# Altium footprint library PcbLib1.PcbLib: 20 footprints (part 1 of 2)
Each footprint in its own frame and in the unit in brackets; x right, y up, seen from the top. Pads: shape width x height; smd on the part's side, far side on the other; paste and mask are expansions set on the pad; w line width, h text height; cw(c..) or ccw(c..) is an arc to the next point about the centre after c.
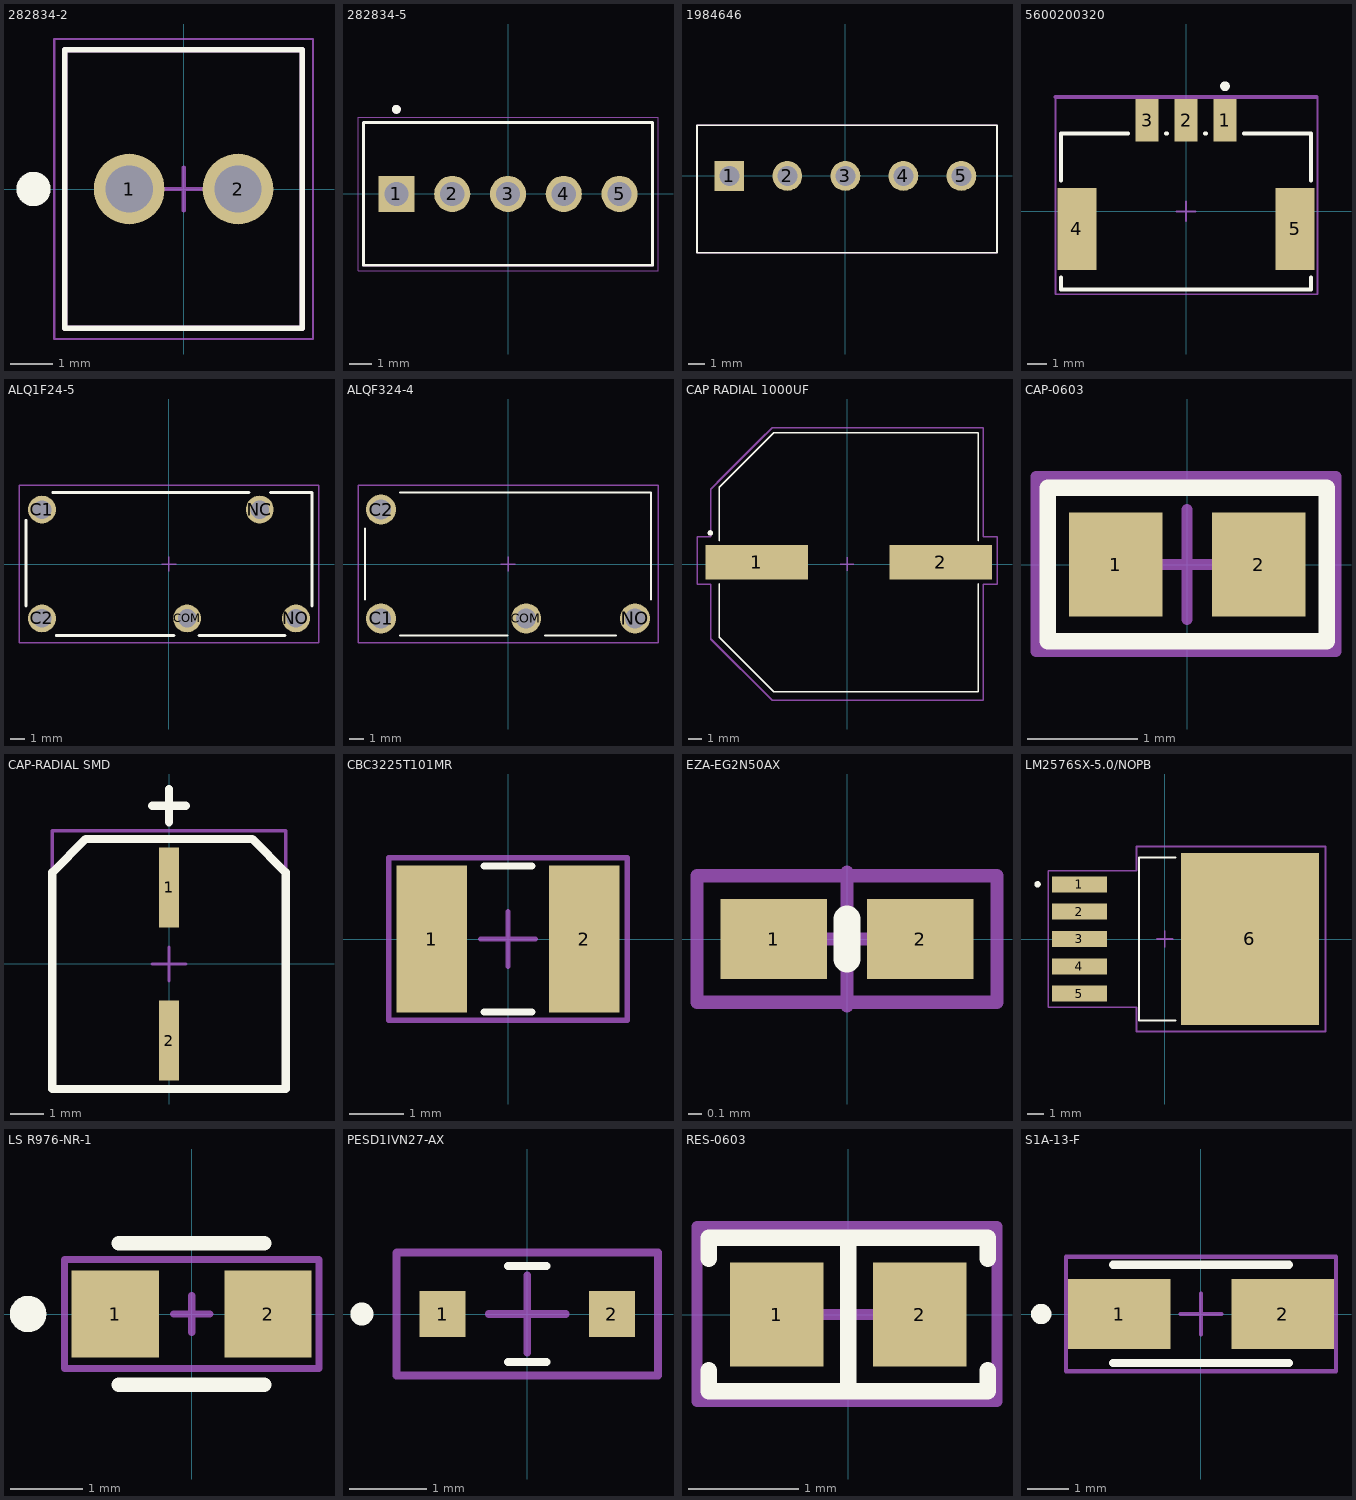
[diagram p0: the footprints below, top view; thin cyan lines are the x and y axes]

## 282834-2 [mm]
pads (2):
  round 1.65 hole 1.1: 1(-1.27,0) 2(1.27,0)
Top Overlay:
  circle w0.4: c-3.502,0 r0.2
  lines w0.127: -2.77,-3.25 -2.77,3.25 2.77,3.25 2.77,-3.25 -2.77,-3.25
Top Component Center:
  lines w0.1: -0.5,0 0.5,0 ; 0,-0.5 0,0.5
  lines w0.127: -2.77,-3.25 2.77,-3.25 2.77,3.25 -2.77,3.25 -2.77,-3.25
Top Designator:
  lines w0.127: -2.77,-3.25 2.77,-3.25 2.77,3.25 -2.77,3.25 -2.77,-3.25
  text ".Designator" at -1,-0.207 h2
Mechanical 13:
  lines w0.127: -2.77,-3.25 -2.77,3.25 2.77,3.25 2.77,-3.25 -2.77,-3.25
Mechanical 15:
  lines w0.05: -3.02,-3.5 -3.02,3.5 3.02,3.5 3.02,-3.5 -3.02,-3.5
3D body "282834-2--3DModel-STEP-1.STEP": height 9.5, standoff -3.9, extent -2.77,-3.25 2.77,3.25

## 282834-5 [mm]
pads (5):
  rect 1.65x1.65 hole 1.1: 1(-5.08,0)
  round 1.65 hole 1.1: 2(-2.54,0) 3(0,0) 4(2.54,0) 5(5.08,0)
Top Overlay:
  circle w0.2: c-5.08,3.85 r0.1
  lines w0.127: -6.58,-3.25 6.58,-3.25 6.58,3.25 -6.58,3.25 -6.58,-3.25
Top Component Center:
  lines w0.1: -0.5,0 0.5,0 ; 0,-0.5 0,0.5 ; -6.58,-3.25 -6.58,3.25 6.58,3.25 6.58,-3.25 -6.58,-3.25
Top Designator:
  lines w0.1: -6.58,-3.25 6.58,-3.25 6.58,3.25 -6.58,3.25 -6.58,-3.25
  text ".Designator" at -1.5,-0.207 h2
Mechanical 13:
  circle w0.2: c-5.08,3.85 r0.1
  lines w0.127: -6.58,-3.25 6.58,-3.25 6.58,3.25 -6.58,3.25 -6.58,-3.25
Mechanical 15:
  lines w0.05: -6.83,-3.5 6.83,-3.5 6.83,3.5 -6.83,3.5 -6.83,-3.5
3D body "282834-5--3DModel-STEP-1.STEP": height 9.3, standoff -4.1, extent -6.58,-3.25 6.58,3.25

## 1984646 [mm]
pads (5):
  rect 1.8x1.8 hole 1.2: 1(-7,0)
  round 1.8 hole 1.2: 2(-3.5,0) 3(0,0) 4(3.5,0) 5(7,0)
Top Overlay:
  lines w0.1: -8.95,-4.625 9.15,-4.625 9.15,3.05 -8.95,3.05 -8.95,-4.625
Top Component Center:
  lines w0.1: -0.5,0 0.5,0 ; 0,-0.5 0,0.5 ; -8.95,-4.625 -8.95,3.05 9.15,3.05 9.15,-4.625 -8.95,-4.625
Top Designator:
  lines w0.1: -8.95,-4.625 -8.95,3.05 9.15,3.05 9.15,-4.625 -8.95,-4.625
  text ".Designator" at -2,-1.061 h3
3D body "1984646.stp": height 9.15, standoff -4.5, extent -8.903,-4.589 9.297,2.961

## 5600200320 [mm]
pads (5):
  rect 1.2x2.2 smd paste+0 mask+0: 1(2,4.68) 2(0,4.68) 3(-2,4.68)
  rect 2x4.2 smd paste+0 mask+0: 4(-5.6,-0.9) 5(5.6,-0.9)
Top Overlay:
  circle w0.25: c2,6.43 r0.125
  lines w0.2: -6.425,-3.375 -6.425,-4 6.425,-4 6.425,-3.375 ; -6.425,1.575 -6.425,4 -2.975,4 ; -1.025,4 -0.975,4 ; 0.975,4 1.025,4 ; 2.975,4 6.425,4 6.425,1.575
Top Component Center:
  lines w0.1: -0.5,0 0.5,0 ; 0,-0.5 0,0.5 ; -6.7,-4.25 6.75,-4.25 6.75,5.9 -6.7,5.9 -6.7,-4.25
Top Designator:
  lines w0.1: -6.7,-4.25 -6.7,5.9 6.75,5.9 6.75,-4.25 -6.7,-4.25
  text ".Designator" at -0.8,-0.281 h1.5
Mechanical 10:
  text ".Designator" at 0,0.89 h1
Mechanical 15:
  lines w0.2: -6.7,5.88 6.7,5.88
3D body "Conn_Molex_5600200320_eec.STEP": height 8.2, standoff 0, extent -6.3,-3.9 6.3,5.25

## ALQ1F24-5 [mm]
pads (5):
  round 1.95 hole 1.3: C1(-8.89,3.81) C2(-8.89,-3.81) COM(1.27,-3.81) NC(6.35,3.81) NO(8.89,-3.81)
Top Overlay:
  lines w0.2: -10,-2.94 -10,3.06 ; -8.14,5 5.61,5 ; -7.89,-5 0.36,-5 ; 2.11,-5 8.11,-5 ; 7.11,5 10,5 10,-2.94
Top Component Center:
  lines w0.1: -0.5,0 0.5,0 ; 0,-0.5 0,0.5 ; -10.5,-5.5 -10.5,5.5 10.5,5.5 10.5,-5.5 -10.5,-5.5
Top Designator:
  lines w0.1: -10.5,-5.5 -10.5,5.5 10.5,5.5 10.5,-5.5 -10.5,-5.5
  text ".Designator" at -2,-0.561 h3
3D body "ALQ1F24.stp": height 16.5, standoff -5, extent -10,-5 10,5

## ALQF324-4 [mm]
pads (4):
  round 2.1 hole 1.4: C1(-8.89,-3.81) C2(-8.89,3.81) COM(1.27,-3.81) NO(8.89,-3.81)
Top Overlay:
  lines w0.127: -10,-2.5 -10,2.5 ; -7.58,-5 -0.045,-5 ; -7.58,5 10,5 10,-2.5 ; 2.57,-5 7.58,-5
Top Component Center:
  lines w0.1: -0.5,0 0.5,0 ; 0,-0.5 0,0.5 ; -10.5,-5.5 10.5,-5.5 10.5,5.5 -10.5,5.5 -10.5,-5.5
Top Designator:
  lines w0.1: -10.5,-5.5 -10.5,5.5 10.5,5.5 10.5,-5.5 -10.5,-5.5
  text ".Designator" at -2,-0.561 h3
3D body "Panasonic LQ Series Relays CAD Drawing ALQ3 (STEP).step": height 16, standoff -3.8, extent -10,-5 10,5

## CAP RADIAL 1000UF [mm]
pads (2):
  rect 7.5x2.5 smd: 1(-6.623,0.127) 2(6.877,0.127)
Top Overlay:
  circle w0.2: c-10.023,2.277 r0.1
  lines w0.127: -9.373,-1.443 -9.373,-5.373 -5.373,-9.373 9.627,-9.373 9.627,-1.443 ; -9.373,1.697 -9.373,5.627 -5.373,9.627 9.627,9.627 9.627,1.697
Top Component Center:
  lines w0.1: -9.5,6 -6,9.5 ; -0.5,0 0.5,0 ; 0,-0.5 0,0.5 ; -11,-1.5 -11,2 -10,2 -10,5.5 -5.5,10 10,10 10,2 11,2 11,-1.5 10,-1.5 10,-10 -5.5,-10 -10,-5.5 -10,-1.5 -11,-1.5
Top Designator:
  lines w0.1: -9.5,6 -6,9.5 ; -11,-1.5 -10,-1.5 -10,-5.5 -5.5,-10 10,-10 10,-1.5 11,-1.5 11,2 10,2 10,10 -5.5,10 -10,5.5 -10,2 -11,2 -11,-1.5
  text ".Designator" at -1,-0.561 h3
3D body "â-18 SIZE CODE K16.stp": height 16.51, standoff 0.01, extent -10.2,-9.5 10.2,9.5

## CAP-0603 [mm]
pads (2):
  rect 0.85x0.95 smd: 1(-0.65,0) 2(0.65,0)
Top Overlay:
  lines w0.15: -1.27,-0.7 -1.27,-0.508 -1.27,0.7 1.27,0.7 1.27,-0.508 1.27,-0.7 -1.27,-0.7
Top Component Center:
  lines w0.1: -0.5,0 0.5,0 ; 0,-0.5 0,0.5 ; -1.375,-0.789 1.354,-0.789 1.354,0.799 -1.375,0.799 -1.375,0.233 -1.375,-0.15 -1.375,-0.709 -1.375,-0.789
Top Designator:
  lines w0.1: -1.375,-0.789 1.354,-0.789 1.354,0.799 -1.375,0.799 -1.375,0.233 -1.375,-0.15 -1.375,-0.709 -1.375,-0.789
  text ".Designator" at -0.5,-0.179 h1
3D body "CAP 0603.STEP": height 0.82, standoff 0, extent -0.775,-0.387 0.825,0.437

## CAP-RADIAL SMD [mm]
pads (2):
  rect 0.6x2.4 smd: 1(0,2.3) 2(0,-2.3)
Top Overlay:
  lines w0.25: -0.5,4.75 0.5,4.75 ; 0,4.25 0,5.25 ; -3.5,-3.75 3.5,-3.75 3.5,2.75 2.5,3.75 0.5,3.75 -2.5,3.75 -3.5,2.75 -3.5,-3.75
Top Component Center:
  lines w0.1: -0.5,0 0.5,0 ; 0,-0.5 0,0.5 ; -3.5,-3.75 -3.5,4 3.5,4 3.5,-3.75 -3.5,-3.75
Top Designator:
  lines w0.1: -3.5,-3.75 -3.5,4 3.5,4 3.5,-3.75 -3.5,-3.75
  text ".Designator" at 0.207,-1 h2
3D body "PCAP_6_3x7_7-ELECT_NCA.step": height 8.05, standoff 0, extent -3.404,-3.696 3.404,3.696

## CBC3225T101MR [mm]
pads (2):
  rect 1.3x2.72 smd: 1(-1.41,0) 2(1.41,0)
Top Overlay:
  lines w0.127: -0.44,-1.35 0.44,-1.35 ; -0.44,1.35 0.44,1.35
Top Component Center:
  lines w0.1: -0.5,0 0.5,0 ; 0,-0.5 0,0.5 ; -2.2,-1.5 2.2,-1.5 2.2,1.5 -2.2,1.5 -2.2,-1.5
Top Designator:
  lines w0.1: -2.2,-1.5 -2.2,1.5 2.2,1.5 2.2,-1.5 -2.2,-1.5
  text ".Designator" at -0.9,-0.281 h1.5
3D body "CBC3225T101MR.STEP": height 2.55, standoff 0.05, extent -1.6,-1.35 1.6,1.35

## EZA-EG2N50AX [mm]
pads (2):
  rect 0.8x0.6 smd: 1(-0.55,0) 2(0.55,0)
Top Overlay:
  lines w0.2: 0,-0.15 0,0.15
Top Component Center:
  lines w0.1: -0.5,0 0,0 ; 0,-0.5 0,0 ; 0,-0.15 0,0.15 ; 0,0.5 0,0 ; 0.5,0 0,0 ; -1.125,-0.475 -1.125,0.475 1.125,0.475 1.125,-0.475 -1.125,-0.475
Top Designator:
  lines w0.1: -1.125,-0.475 1.125,-0.475 1.125,0.475 -1.125,0.475 -1.125,-0.475
  text ".Designator" at -0.56,-0.202 h1
3D body "EZA-EG2N50AX.stp": height 0.43, standoff 0, extent -0.5,-0.25 0.5,0.25

## LM2576SX-5.0/NOPB [mm]
pads (6):
  rect 3.4x1 smd paste-3 mask+0: 1(-5.3,3.4) 2(-5.3,1.7) 3(-5.3,0) 4(-5.3,-1.7) 5(-5.3,-3.4)
  rect 8.6x10.7 smd paste-6 mask+0: 6(5.3,0)
Top Overlay:
  circle w0.2: c-7.9,3.4 r0.1
  lines w0.127: 0.68,-5.08 -1.605,-5.08 -1.605,5.08 0.68,5.08
Top Paste:
  region: 9.55,-5.3 1.05,-5.3 1.05,5.3 9.55,5.3
  region: -3.65,-0.45 -6.95,-0.45 -6.95,0.45 -3.65,0.45
  region: -3.65,1.25 -6.95,1.25 -6.95,2.15 -3.65,2.15
  region: -3.65,2.95 -6.95,2.95 -6.95,3.85 -3.65,3.85
  region: -3.65,-2.15 -6.95,-2.15 -6.95,-1.25 -3.65,-1.25
  region: -3.65,-3.85 -6.95,-3.85 -6.95,-2.95 -3.65,-2.95
Top Solder:
  region: 9.67,-5.42 0.93,-5.42 0.93,5.42 9.67,5.42
  region: -3.53,-0.57 -7.07,-0.57 -7.07,0.57 -3.53,0.57
  region: -3.53,1.13 -7.07,1.13 -7.07,2.27 -3.53,2.27
  region: -3.53,2.83 -7.07,2.83 -7.07,3.97 -3.53,3.97
  region: -3.53,-2.27 -7.07,-2.27 -7.07,-1.13 -3.53,-1.13
  region: -3.53,-3.97 -7.07,-3.97 -7.07,-2.83 -3.53,-2.83
Top Component Center:
  lines w0.1: -0.5,0 0.5,0 ; 0,-0.5 0,0.5 ; -7.25,-4.25 -7.25,4.25 -1.75,4.25 -1.75,5 -1.75,5.75 10,5.75 10,-5.75 -1.75,-5.75 -1.75,-4.25 -7.25,-4.25
Top Designator:
  lines w0.1: -7.25,-4.25 -1.75,-4.25 -1.75,-5.75 10,-5.75 10,5.75 -1.75,5.75 -1.75,5 -1.75,4.25 -7.25,4.25 -7.25,-4.25
  text ".Designator" at -1.5,-0.561 h3
3D body "NOPB.STEP": height 4.66, standoff -0.14, extent -6.875,-5.08 7.476,5.08

## LS R976-NR-1 [mm]
pads (2):
  rect 1.2x1.2 smd paste+0 mask+0: 1(-1.05,0) 2(1.05,0)
Top Overlay:
  circle w0.25: c-2.25,0 r0.125
  lines w0.2: -1,-0.975 1,-0.975 ; -1,0.975 1,0.975
Top Component Center:
  lines w0.1: -0.25,0 0.25,0 ; 0,-0.25 0,0.25 ; -1.75,-0.75 -1.75,0.75 -1,0.75 1.75,0.75 1.75,-0.75 -1.75,-0.75
Top Designator:
  lines w0.1: -1.75,-0.75 -1.75,0.75 -1,0.75 1.75,0.75 1.75,-0.75 -1.75,-0.75
  text ".Designator" at -0.5,-0.104 h1
Mechanical 10:
  text ".Designator" at 0,0 h1
3D body "Diode_OSRAM_LS_R976-NR-1_eec.STEP": height 0.9, standoff 0, extent -1,-0.675 0.9,0.675

## PESD1IVN27-AX [mm]
pads (2):
  rect 0.6x0.6 smd: 1(-1.1,0) 2(1.1,0)
Top Overlay:
  lines w0.1: -0.25,-0.625 0.25,-0.625 -0.25,-0.625 ; -0.25,0.625 0.25,0.625 -0.25,0.625
  lines w0.2: -2.2,0 ccw(c-2.15,0) -2.1,0 ; -2.2,0 cw(c-2.15,0) -2.1,0 ; -2.2,0 ccw(c-2.15,0) -2.1,0
Top Component Center:
  lines w0.1: -0.5,0 0.5,0 ; 0,-0.5 0,0.5 ; -1.7,-0.8 -1.7,0.6 -1.7,0.798 -1.698,0.8 -1.6,0.8 1.7,0.8 1.7,-0.8 -1.7,-0.8
Top Designator:
  lines w0.1: -1.7,-0.8 -1.7,0.6 -1.7,0.798 -1.698,0.8 -1.6,0.8 1.7,0.8 1.7,-0.8 -1.7,-0.8
3D body "PESD1IVN27-AX.stp": height 1.2, standoff 0, extent -1.34,-0.625 1.34,0.625

## RES-0603 [mm]
pads (2):
  rect 0.85x0.95 smd: 1(-0.65,0) 2(0.65,0)
Top Overlay:
  lines w0.15: -1.27,-0.508 -1.27,-0.7 1.27,-0.7 1.27,-0.508 ; -1.27,0.508 -1.27,0.7 1.27,0.7 1.27,0.508 ; 0,-0.7 0,0.7
Top Component Center:
  lines w0.1: -0.5,0 0.5,0 ; 0,-0.5 0,0.5 ; -1.375,-0.789 1.354,-0.789 1.354,0.799 -1.375,0.799 -1.375,0.233 -1.375,-0.15 -1.375,-0.709 -1.375,-0.789
Top Designator:
  lines w0.1: -1.375,-0.789 1.354,-0.789 1.354,0.799 -1.375,0.799 -1.375,0.233 -1.375,-0.15 -1.375,-0.709 -1.375,-0.789
  text ".Designator" at -0.5,-0.179 h1
3D body "0603 resistor.STEP": height 0.45, standoff 0, extent -0.8,-0.4 0.8,0.4

## S1A-13-F [mm]
pads (2):
  rect 2.5x1.7 smd paste+0 mask+0: 1(-2,0) 2(2,0)
Top Overlay:
  circle w0.25: c-3.908,0 r0.125
  lines w0.2: -2.15,-1.2 2.15,-1.2 ; -2.15,1.202 2.15,1.202
Top Component Center:
  lines w0.1: -0.5,0 0.5,0 ; 0,-0.5 0,0.5 ; -3.3,-1.4 3.3,-1.4 3.3,1.4 -3.3,1.4 -3.3,-1.4
Top Designator:
  lines w0.1: -3.3,-1.4 3.3,-1.4 3.3,1.4 -3.3,1.4 -3.3,-1.4
  text ".Designator" at -0.8,-0.407 h2
Mechanical 10:
  text ".Designator" at 0,0 h1
3D body "S1A-13-F.stp": height 2.4, standoff 0, extent -2.597,-1.302 2.598,1.303